# Altium footprint library Analog Devices MEMS Inertial Sensors.PcbLib: 29 footprints (part 1 of 2)
Each footprint in its own frame and in the unit in brackets; x right, y up, seen from the top. Pads: shape width x height; smd on the part's side, far side on the other; paste and mask are expansions set on the pad; w line width, h text height; cw(c..) or ccw(c..) is an arc to the next point about the centre after c.
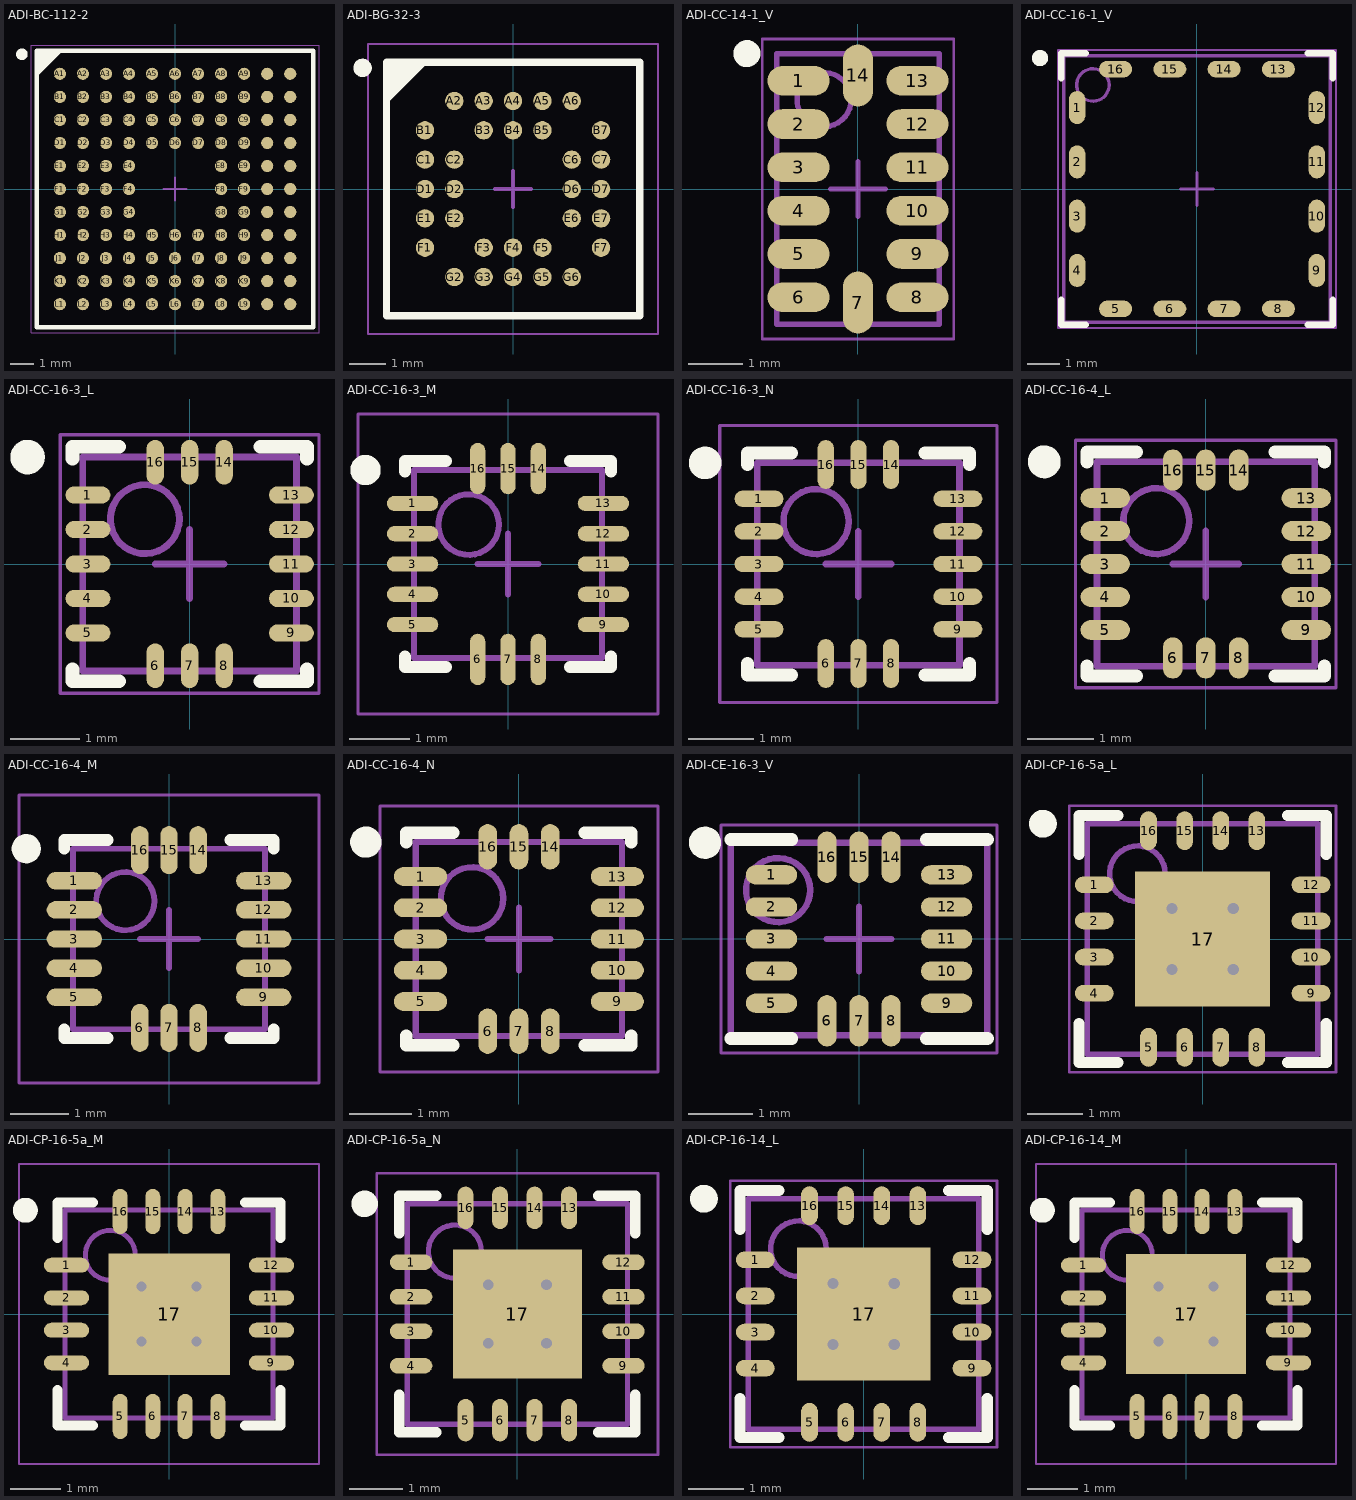
[diagram p0: the footprints below, top view; thin cyan lines are the x and y axes]

## ADI-BC-112-2 [mm] "BGA, 112-Balls, Body 12x12mm, Pitch 1mm"
height 4.15
pads (112):
  round 0.53 smd: A1(-5,5) A2(-4,5) A3(-3,5) A4(-2,5) A5(-1,5) A6(0,5) A7(1,5) A8(2,5) A9(3,5) A10(4,5) A11(5,5) B1(-5,4) B2(-4,4) B3(-3,4) B4(-2,4) B5(-1,4) B6(0,4) B7(1,4) B8(2,4) B9(3,4) B10(4,4) B11(5,4) C1(-5,3) C2(-4,3) C3(-3,3) C4(-2,3) C5(-1,3) C6(0,3) C7(1,3) C8(2,3) C9(3,3) C10(4,3) C11(5,3) D1(-5,2) D2(-4,2) D3(-3,2) D4(-2,2) D5(-1,2) D6(0,2) D7(1,2) D8(2,2) D9(3,2) D10(4,2) D11(5,2) E1(-5,1) E2(-4,1) E3(-3,1) E4(-2,1) E8(2,1) E9(3,1) E10(4,1) E11(5,1) F1(-5,0) F2(-4,0) F3(-3,0) F4(-2,0) F8(2,0) F9(3,0) F10(4,0) F11(5,0) G1(-5,-1) G2(-4,-1) G3(-3,-1) G4(-2,-1) G8(2,-1) G9(3,-1) G10(4,-1) G11(5,-1) H1(-5,-2) H2(-4,-2) H3(-3,-2) H4(-2,-2) H5(-1,-2) H6(0,-2) H7(1,-2) H8(2,-2) H9(3,-2) H10(4,-2) H11(5,-2) J1(-5,-3) J2(-4,-3) J3(-3,-3) J4(-2,-3) J5(-1,-3) J6(0,-3) J7(1,-3) J8(2,-3) J9(3,-3) J10(4,-3) J11(5,-3) K1(-5,-4) K2(-4,-4) K3(-3,-4) K4(-2,-4) K5(-1,-4) K6(0,-4) K7(1,-4) K8(2,-4) K9(3,-4) K10(4,-4) K11(5,-4) L1(-5,-5) L2(-4,-5) L3(-3,-5) L4(-2,-5) L5(-1,-5) L6(0,-5) L7(1,-5) L8(2,-5) L9(3,-5) L10(4,-5) L11(5,-5)
Top Overlay:
  circle w0.25: c-6.65,5.85 r0.125
  region: -5,6 -6,5 -6,6
  lines w0.2: -6,5 -5,6 ; -6,-6 6,-6 6,6 -6,6 -6,-6
Mechanical 13:
  lines w0.1: -6,-6 6,-6 6,6 -6,6 -6,-6
Mechanical 15:
  lines w0.05: -6.25,-6.25 6.25,-6.25 6.25,6.25 -6.25,6.25 -6.25,-6.25
  lines w0.1: -0.5,0 0.5,0 ; 0,-0.5 0,0.5
3D body: height 4.15, standoff 0.4, extent -6,-6 6,6

## ADI-BG-32-3 [mm] "BGA, 32-Balls, Body 6.85x6.85mm, Pitch 0.8mm"
height 3.8
pads (32):
  round 0.5 smd: A2(-1.6,2.4) A3(-0.8,2.4) A4(0,2.4) A5(0.8,2.4) A6(1.6,2.4) B1(-2.4,1.6) B3(-0.8,1.6) B4(0,1.6) B5(0.8,1.6) B7(2.4,1.6) C1(-2.4,0.8) C2(-1.6,0.8) C6(1.6,0.8) C7(2.4,0.8) D1(-2.4,0) D2(-1.6,0) D6(1.6,0) D7(2.4,0) E1(-2.4,-0.8) E2(-1.6,-0.8) E6(1.6,-0.8) E7(2.4,-0.8) F1(-2.4,-1.6) F3(-0.8,-1.6) F4(0,-1.6) F5(0.8,-1.6) F7(2.4,-1.6) G2(-1.6,-2.4) G3(-0.8,-2.4) G4(0,-2.4) G5(0.8,-2.4) G6(1.6,-2.4)
Top Overlay:
  circle w0.25: c-4.1,3.3 r0.125
  region: -2.45,3.45 -3.45,2.45 -3.45,3.45
  lines w0.2: -3.45,2.45 -2.45,3.45 ; -3.45,-3.45 -3.45,3.45 3.45,3.45 3.45,-3.45 -3.45,-3.45
Mechanical 13:
  lines w0.1: -3.44,-3.44 -3.44,3.44 3.44,3.44 3.44,-3.44 -3.44,-3.44
Mechanical 15:
  lines w0.05: -3.95,-3.95 -3.95,3.95 3.95,3.95 3.95,-3.95 -3.95,-3.95
  lines w0.1: -0.5,0 0.5,0 ; 0,-0.5 0,0.5
3D body: height 3.8, standoff 0.25, extent -3.44,-3.44 3.44,3.44

## ADI-CC-14-1_V [mm] "QFN, 14-Leads, Body 5x3mm, Pitch 0.8mm"
height 1
pads (14):
  oval 1.145x0.55 smd: 1(-1.098,2) 2(-1.098,1.2) 3(-1.098,0.4) 4(-1.098,-0.4) 5(-1.098,-1.2) 6(-1.098,-2) 8(1.097,-2) 9(1.097,-1.2) 10(1.097,-0.4) 11(1.097,0.4) 12(1.097,1.2) 13(1.097,2)
  oval 0.55x1.145 smd: 7(0,-2.097) 14(0,2.098)
Top Overlay:
  circle w0.25: c-2.051,2.5 r0.125
Mechanical 13:
  circle w0.1: c-0.627,1.651 r0.5
  lines w0.1: -1.5,-2.5 1.5,-2.5 1.5,2.5 -1.5,2.5 -1.5,-2.5
Mechanical 15:
  lines w0.05: -1.77,-2.77 1.77,-2.77 1.77,2.77 -1.77,2.77 -1.77,-2.77
  lines w0.1: -0.5,0 0.5,0 ; 0,-0.5 0,0.5
3D body: height 1, standoff 0, extent -1.5,-2.5 1.5,2.5

## ADI-CC-16-1_V [mil] "QFN, 16-Leads, Body 8.2x8.2mm, Pitch 1.67mm"
height 204.72
pads (16):
  oval 20x40 smd: 1(-145.14,98.62) 2(-145.14,32.87) 3(-145.14,-32.87) 4(-145.14,-98.62) 9(145.14,-98.62) 10(145.14,-32.87) 11(145.14,32.87) 12(145.14,98.62)
  oval 40x20 smd: 5(-98.62,-145.14) 6(-32.87,-145.14) 7(32.87,-145.14) 8(98.62,-145.14) 13(98.62,145.14) 14(32.87,145.14) 15(-32.87,145.14) 16(-98.62,145.14)
Top Overlay:
  circle w9.84: c-189.96,158.46 r4.92
  lines w7.87: -164.37,-134.37 -164.37,-164.37 -134.37,-164.37 ; -164.37,134.37 -164.37,164.37 -134.37,164.37 ; 134.37,-164.37 164.37,-164.37 164.37,-134.37 ; 134.37,164.37 164.37,164.37 164.37,134.37
Mechanical 13:
  circle w3.94: c-125.98,125.98 r19.68
  lines w3.94: -161.42,-161.42 161.42,-161.42 161.42,161.42 -161.42,161.42 -161.42,-161.42
Mechanical 15:
  lines w1.97: -168.31,-168.31 168.31,-168.31 168.31,168.31 -168.31,168.31 -168.31,-168.31
  lines w3.94: -19.68,0 19.68,0 ; 0,-19.68 0,19.68
3D body: height 125.98, standoff 0, extent -161.42,-161.42 161.42,161.42
3D body: height 204.72, standoff 125.98, extent -137.8,-137.8 137.8,137.8

## ADI-CC-16-3_L [mm] "QFN, 16-Leads, Body 3x3mm, Pitch 0.5mm, IPC High Density"
height 1
pads (16):
  oval 0.65x0.25 smd: 1(-1.475,1) 2(-1.475,0.5) 3(-1.475,0) 4(-1.475,-0.5) 5(-1.475,-1) 9(1.475,-1) 10(1.475,-0.5) 11(1.475,0) 12(1.475,0.5) 13(1.475,1)
  oval 0.25x0.65 smd: 6(-0.5,-1.475) 7(0,-1.475) 8(0.5,-1.475) 14(0.5,1.475) 15(0,1.475) 16(-0.5,1.475)
Top Overlay:
  circle w0.25: c-2.35,1.55 r0.125
  lines w0.2: -1.7,-1.525 -1.7,-1.7 -1.025,-1.7 ; -1.7,1.525 -1.7,1.7 -1.025,1.7 ; 1.025,-1.7 1.7,-1.7 1.7,-1.525 ; 1.025,1.7 1.7,1.7 1.7,1.525
Mechanical 13:
  circle w0.1: c-0.65,0.65 r0.5
  lines w0.1: -1.55,-1.55 -1.55,1.55 1.55,1.55 1.55,-1.55 -1.55,-1.55
Mechanical 15:
  lines w0.05: -1.875,-1.875 -1.875,1.875 1.875,1.875 1.875,-1.875 -1.875,-1.875
  lines w0.1: -0.5,0 0.5,0 ; 0,-0.5 0,0.5
3D body: height 1, standoff 0, extent -1.55,-1.55 1.55,1.55

## ADI-CC-16-3_M [mm] "QFN, 16-Leads, Body 3x3mm, Pitch 0.5mm, IPC Low Density"
height 1
pads (16):
  oval 0.85x0.25 smd: 1(-1.575,1) 2(-1.575,0.5) 3(-1.575,0) 4(-1.575,-0.5) 5(-1.575,-1) 9(1.575,-1) 10(1.575,-0.5) 11(1.575,0) 12(1.575,0.5) 13(1.575,1)
  oval 0.25x0.85 smd: 6(-0.5,-1.575) 7(0,-1.575) 8(0.5,-1.575) 14(0.5,1.575) 15(0,1.575) 16(-0.5,1.575)
Top Overlay:
  circle w0.25: c-2.35,1.55 r0.125
  lines w0.2: -1.7,-1.525 -1.7,-1.7 -1.025,-1.7 ; -1.7,1.525 -1.7,1.7 -1.025,1.7 ; 1.025,-1.7 1.7,-1.7 1.7,-1.525 ; 1.025,1.7 1.7,1.7 1.7,1.525
Mechanical 13:
  circle w0.1: c-0.65,0.65 r0.5
  lines w0.1: -1.55,-1.55 -1.55,1.55 1.55,1.55 1.55,-1.55 -1.55,-1.55
Mechanical 15:
  lines w0.05: -2.475,-2.475 -2.475,2.475 2.475,2.475 2.475,-2.475 -2.475,-2.475
  lines w0.1: -0.5,0 0.5,0 ; 0,-0.5 0,0.5
3D body: height 1, standoff 0, extent -1.55,-1.55 1.55,1.55

## ADI-CC-16-3_N [mm] "QFN, 16-Leads, Body 3x3mm, Pitch 0.5mm, IPC Medium Density"
height 1
pads (16):
  oval 0.75x0.25 smd: 1(-1.525,1) 2(-1.525,0.5) 3(-1.525,0) 4(-1.525,-0.5) 5(-1.525,-1) 9(1.525,-1) 10(1.525,-0.5) 11(1.525,0) 12(1.525,0.5) 13(1.525,1)
  oval 0.25x0.75 smd: 6(-0.5,-1.525) 7(0,-1.525) 8(0.5,-1.525) 14(0.5,1.525) 15(0,1.525) 16(-0.5,1.525)
Top Overlay:
  circle w0.25: c-2.35,1.55 r0.125
  lines w0.2: -1.7,-1.525 -1.7,-1.7 -1.025,-1.7 ; -1.7,1.525 -1.7,1.7 -1.025,1.7 ; 1.025,-1.7 1.7,-1.7 1.7,-1.525 ; 1.025,1.7 1.7,1.7 1.7,1.525
Mechanical 13:
  circle w0.1: c-0.65,0.65 r0.5
  lines w0.1: -1.55,-1.55 -1.55,1.55 1.55,1.55 1.55,-1.55 -1.55,-1.55
Mechanical 15:
  lines w0.05: -2.125,-2.125 -2.125,2.125 2.125,2.125 2.125,-2.125 -2.125,-2.125
  lines w0.1: -0.5,0 0.5,0 ; 0,-0.5 0,0.5
3D body: height 1, standoff 0, extent -1.55,-1.55 1.55,1.55

## ADI-CC-16-4_L [mm] "QFN, 16-Leads, Body 3.25x3mm, Pitch 0.5mm, IPC High Density"
height 1.14
pads (16):
  oval 0.75x0.3 smd: 1(-1.525,1) 2(-1.525,0.5) 3(-1.525,0) 4(-1.525,-0.5) 5(-1.525,-1) 9(1.525,-1) 10(1.525,-0.5) 11(1.525,0) 12(1.525,0.5) 13(1.525,1)
  oval 0.3x0.625 smd: 6(-0.5,-1.425) 7(0,-1.425) 8(0.5,-1.425) 14(0.5,1.425) 15(0,1.425) 16(-0.5,1.425)
Top Overlay:
  circle w0.25: c-2.45,1.55 r0.125
  lines w0.2: -1.8,-1.55 -1.8,-1.7 -1.05,-1.7 ; -1.8,1.55 -1.8,1.7 -1.05,1.7 ; 1.05,-1.7 1.8,-1.7 1.8,-1.55 ; 1.05,1.7 1.8,1.7 1.8,1.55
Mechanical 13:
  circle w0.1: c-0.75,0.65 r0.5
  lines w0.1: -1.65,-1.55 1.65,-1.55 1.65,1.55 -1.65,1.55 -1.65,-1.55
Mechanical 15:
  lines w0.05: -1.975,-1.875 1.975,-1.875 1.975,1.875 -1.975,1.875 -1.975,-1.875
  lines w0.1: -0.5,0 0.5,0 ; 0,-0.5 0,0.5
3D body: height 1.14, standoff 0, extent -1.65,-1.55 1.65,1.55

## ADI-CC-16-4_M [mm] "QFN, 16-Leads, Body 3.25x3mm, Pitch 0.5mm, IPC Low Density"
height 1.14
pads (16):
  oval 0.95x0.3 smd: 1(-1.625,1) 2(-1.625,0.5) 3(-1.625,0) 4(-1.625,-0.5) 5(-1.625,-1) 9(1.625,-1) 10(1.625,-0.5) 11(1.625,0) 12(1.625,0.5) 13(1.625,1)
  oval 0.3x0.825 smd: 6(-0.5,-1.525) 7(0,-1.525) 8(0.5,-1.525) 14(0.5,1.525) 15(0,1.525) 16(-0.5,1.525)
Top Overlay:
  circle w0.25: c-2.45,1.55 r0.125
  lines w0.2: -1.8,-1.55 -1.8,-1.7 -1.05,-1.7 ; -1.8,1.55 -1.8,1.7 -1.05,1.7 ; 1.05,-1.7 1.8,-1.7 1.8,-1.55 ; 1.05,1.7 1.8,1.7 1.8,1.55
Mechanical 13:
  circle w0.1: c-0.75,0.65 r0.5
  lines w0.1: -1.65,-1.55 1.65,-1.55 1.65,1.55 -1.65,1.55 -1.65,-1.55
Mechanical 15:
  lines w0.05: -2.575,-2.475 2.575,-2.475 2.575,2.475 -2.575,2.475 -2.575,-2.475
  lines w0.1: -0.5,0 0.5,0 ; 0,-0.5 0,0.5
3D body: height 1.14, standoff 0, extent -1.65,-1.55 1.65,1.55

## ADI-CC-16-4_N [mm] "QFN, 16-Leads, Body 3.25x3mm, Pitch 0.5mm, IPC Medium Density"
height 1.14
pads (16):
  oval 0.85x0.3 smd: 1(-1.575,1) 2(-1.575,0.5) 3(-1.575,0) 4(-1.575,-0.5) 5(-1.575,-1) 9(1.575,-1) 10(1.575,-0.5) 11(1.575,0) 12(1.575,0.5) 13(1.575,1)
  oval 0.3x0.725 smd: 6(-0.5,-1.475) 7(0,-1.475) 8(0.5,-1.475) 14(0.5,1.475) 15(0,1.475) 16(-0.5,1.475)
Top Overlay:
  circle w0.25: c-2.45,1.55 r0.125
  lines w0.2: -1.8,-1.55 -1.8,-1.7 -1.05,-1.7 ; -1.8,1.55 -1.8,1.7 -1.05,1.7 ; 1.05,-1.7 1.8,-1.7 1.8,-1.55 ; 1.05,1.7 1.8,1.7 1.8,1.55
Mechanical 13:
  circle w0.1: c-0.75,0.65 r0.5
  lines w0.1: -1.65,-1.55 1.65,-1.55 1.65,1.55 -1.65,1.55 -1.65,-1.55
Mechanical 15:
  lines w0.05: -2.225,-2.125 2.225,-2.125 2.225,2.125 -2.225,2.125 -2.225,-2.125
  lines w0.1: -0.5,0 0.5,0 ; 0,-0.5 0,0.5
3D body: height 1.14, standoff 0, extent -1.65,-1.55 1.65,1.55

## ADI-CE-16-3_V [mm] "QFN, 16-Leads, Body 4x3mm, Pitch 0.5mm"
height 1.3
pads (16):
  oval 0.8x0.3 smd: 1(-1.365,1) 2(-1.365,0.5) 3(-1.365,0) 4(-1.365,-0.5) 5(-1.365,-1) 9(1.365,-1) 10(1.365,-0.5) 11(1.365,0) 12(1.365,0.5) 13(1.365,1)
  oval 0.3x0.8 smd: 6(-0.5,-1.275) 7(0,-1.275) 8(0.5,-1.275) 14(0.5,1.275) 15(0,1.275) 16(-0.5,1.275)
Top Overlay:
  circle w0.25: c-2.4,1.5 r0.125
  lines w0.2: -2,-1.55 -1.049,-1.55 ; -2,1.55 -1.049,1.55 ; 1.049,-1.55 2,-1.55 ; 1.049,1.55 2,1.55
Mechanical 13:
  circle w0.1: c-1.262,0.762 r0.5
  lines w0.1: -2,-1.5 -2,1.5 2,1.5 2,-1.5 -2,-1.5
Mechanical 15:
  lines w0.05: -2.15,-1.775 -2.15,1.775 2.15,1.775 2.15,-1.775 -2.15,-1.775
  lines w0.1: -0.5,0 0.5,0 ; 0,-0.5 0,0.5
3D body: height 1.3, standoff 0, extent -2,-1.5 2,1.5

## ADI-CP-16-5a_L [mm] "QFN, 16-Leads, Body 4x4mm, Pitch 0.65mm, Thermal Pad 1.75x1.75mm, IPC High Density"
height 1.5
pads (17):
  oval 0.7x0.3 smd: 1(-1.95,0.975) 2(-1.95,0.325) 3(-1.95,-0.325) 4(-1.95,-0.975) 9(1.95,-0.975) 10(1.95,-0.325) 11(1.95,0.325) 12(1.95,0.975)
  oval 0.3x0.7 smd: 5(-0.975,-1.95) 6(-0.325,-1.95) 7(0.325,-1.95) 8(0.975,-1.95) 13(0.975,1.95) 14(0.325,1.95) 15(-0.325,1.95) 16(-0.975,1.95)
  rect 2.43x2.43 smd: 17(0,0)
via -0.55,0.55 diameter 0.5 hole 0.2
via 0.55,0.55 diameter 0.5 hole 0.2
via -0.55,-0.55 diameter 0.5 hole 0.2
via 0.55,-0.55 diameter 0.5 hole 0.2
Top Overlay:
  circle w0.25: c-2.875,2.075 r0.125
  lines w0.2: -2.225,-1.525 -2.225,-2.225 -1.525,-2.225 ; -2.225,1.525 -2.225,2.225 -1.525,2.225 ; 1.525,-2.225 2.225,-2.225 2.225,-1.525 ; 1.525,2.225 2.225,2.225 2.225,1.525
Mechanical 13:
  circle w0.1: c-1.175,1.175 r0.5
  lines w0.1: -2.075,-2.075 -2.075,2.075 2.075,2.075 2.075,-2.075 -2.075,-2.075
Mechanical 15:
  lines w0.05: -2.4,-2.4 -2.4,2.4 2.4,2.4 2.4,-2.4 -2.4,-2.4
  lines w0.1: -0.5,0 0.5,0 ; 0,-0.5 0,0.5
3D body: height 1.5, standoff 0, extent -2.075,-2.075 2.075,2.075

## ADI-CP-16-5a_M [mm] "QFN, 16-Leads, Body 4x4mm, Pitch 0.65mm, Thermal Pad 1.75x1.75mm, IPC Low Density"
height 1.5
pads (17):
  oval 0.9x0.3 smd: 1(-2.05,0.975) 2(-2.05,0.325) 3(-2.05,-0.325) 4(-2.05,-0.975) 9(2.05,-0.975) 10(2.05,-0.325) 11(2.05,0.325) 12(2.05,0.975)
  oval 0.3x0.9 smd: 5(-0.975,-2.05) 6(-0.325,-2.05) 7(0.325,-2.05) 8(0.975,-2.05) 13(0.975,2.05) 14(0.325,2.05) 15(-0.325,2.05) 16(-0.975,2.05)
  rect 2.43x2.43 smd: 17(0,0)
via -0.55,0.55 diameter 0.5 hole 0.2
via 0.55,0.55 diameter 0.5 hole 0.2
via -0.55,-0.55 diameter 0.5 hole 0.2
via 0.55,-0.55 diameter 0.5 hole 0.2
Top Overlay:
  circle w0.25: c-2.875,2.075 r0.125
  lines w0.2: -2.225,-1.525 -2.225,-2.225 -1.525,-2.225 ; -2.225,1.525 -2.225,2.225 -1.525,2.225 ; 1.525,-2.225 2.225,-2.225 2.225,-1.525 ; 1.525,2.225 2.225,2.225 2.225,1.525
Mechanical 13:
  circle w0.1: c-1.175,1.175 r0.5
  lines w0.1: -2.075,-2.075 -2.075,2.075 2.075,2.075 2.075,-2.075 -2.075,-2.075
Mechanical 15:
  lines w0.05: -3,-3 -3,3 3,3 3,-3 -3,-3
  lines w0.1: -0.5,0 0.5,0 ; 0,-0.5 0,0.5
3D body: height 1.5, standoff 0, extent -2.075,-2.075 2.075,2.075

## ADI-CP-16-5a_N [mm] "QFN, 16-Leads, Body 4x4mm, Pitch 0.65mm, Thermal Pad 1.75x1.75mm, IPC Medium Density"
height 1.5
pads (17):
  oval 0.8x0.3 smd: 1(-2,0.975) 2(-2,0.325) 3(-2,-0.325) 4(-2,-0.975) 9(2,-0.975) 10(2,-0.325) 11(2,0.325) 12(2,0.975)
  oval 0.3x0.8 smd: 5(-0.975,-2) 6(-0.325,-2) 7(0.325,-2) 8(0.975,-2) 13(0.975,2) 14(0.325,2) 15(-0.325,2) 16(-0.975,2)
  rect 2.43x2.43 smd: 17(0,0)
via -0.55,0.55 diameter 0.5 hole 0.2
via 0.55,0.55 diameter 0.5 hole 0.2
via -0.55,-0.55 diameter 0.5 hole 0.2
via 0.55,-0.55 diameter 0.5 hole 0.2
Top Overlay:
  circle w0.25: c-2.875,2.075 r0.125
  lines w0.2: -2.225,-1.525 -2.225,-2.225 -1.525,-2.225 ; -2.225,1.525 -2.225,2.225 -1.525,2.225 ; 1.525,-2.225 2.225,-2.225 2.225,-1.525 ; 1.525,2.225 2.225,2.225 2.225,1.525
Mechanical 13:
  circle w0.1: c-1.175,1.175 r0.5
  lines w0.1: -2.075,-2.075 -2.075,2.075 2.075,2.075 2.075,-2.075 -2.075,-2.075
Mechanical 15:
  lines w0.05: -2.65,-2.65 -2.65,2.65 2.65,2.65 2.65,-2.65 -2.65,-2.65
  lines w0.1: -0.5,0 0.5,0 ; 0,-0.5 0,0.5
3D body: height 1.5, standoff 0, extent -2.075,-2.075 2.075,2.075

## ADI-CP-16-14_L [mm] "QFN, 16-Leads, Body 4x4mm, Pitch 0.65mm, Thermal Pad 2.4x2.4mm, IPC High Density"
height 1.5
pads (17):
  oval 0.7x0.3 smd: 1(-1.95,0.975) 2(-1.95,0.325) 3(-1.95,-0.325) 4(-1.95,-0.975) 9(1.95,-0.975) 10(1.95,-0.325) 11(1.95,0.325) 12(1.95,0.975)
  oval 0.3x0.7 smd: 5(-0.975,-1.95) 6(-0.325,-1.95) 7(0.325,-1.95) 8(0.975,-1.95) 13(0.975,1.95) 14(0.325,1.95) 15(-0.325,1.95) 16(-0.975,1.95)
  rect 2.4x2.4 smd: 17(0,0)
via -0.55,0.55 diameter 0.5 hole 0.2
via 0.55,0.55 diameter 0.5 hole 0.2
via -0.55,-0.55 diameter 0.5 hole 0.2
via 0.55,-0.55 diameter 0.5 hole 0.2
Top Overlay:
  circle w0.25: c-2.875,2.075 r0.125
  lines w0.2: -2.225,-1.525 -2.225,-2.225 -1.525,-2.225 ; -2.225,1.525 -2.225,2.225 -1.525,2.225 ; 1.525,-2.225 2.225,-2.225 2.225,-1.525 ; 1.525,2.225 2.225,2.225 2.225,1.525
Mechanical 13:
  circle w0.1: c-1.175,1.175 r0.5
  lines w0.1: -2.075,-2.075 -2.075,2.075 2.075,2.075 2.075,-2.075 -2.075,-2.075
Mechanical 15:
  lines w0.05: -2.4,-2.4 -2.4,2.4 2.4,2.4 2.4,-2.4 -2.4,-2.4
  lines w0.1: -0.5,0 0.5,0 ; 0,-0.5 0,0.5
3D body: height 1.5, standoff 0, extent -2.075,-2.075 2.075,2.075

## ADI-CP-16-14_M [mm] "QFN, 16-Leads, Body 4x4mm, Pitch 0.65mm, Thermal Pad 2.4x2.4mm, IPC Low Density"
height 1.5
pads (17):
  oval 0.9x0.3 smd: 1(-2.05,0.975) 2(-2.05,0.325) 3(-2.05,-0.325) 4(-2.05,-0.975) 9(2.05,-0.975) 10(2.05,-0.325) 11(2.05,0.325) 12(2.05,0.975)
  oval 0.3x0.9 smd: 5(-0.975,-2.05) 6(-0.325,-2.05) 7(0.325,-2.05) 8(0.975,-2.05) 13(0.975,2.05) 14(0.325,2.05) 15(-0.325,2.05) 16(-0.975,2.05)
  rect 2.4x2.4 smd: 17(0,0)
via -0.55,0.55 diameter 0.5 hole 0.2
via 0.55,0.55 diameter 0.5 hole 0.2
via -0.55,-0.55 diameter 0.5 hole 0.2
via 0.55,-0.55 diameter 0.5 hole 0.2
Top Overlay:
  circle w0.25: c-2.875,2.075 r0.125
  lines w0.2: -2.225,-1.525 -2.225,-2.225 -1.525,-2.225 ; -2.225,1.525 -2.225,2.225 -1.525,2.225 ; 1.525,-2.225 2.225,-2.225 2.225,-1.525 ; 1.525,2.225 2.225,2.225 2.225,1.525
Mechanical 13:
  circle w0.1: c-1.175,1.175 r0.5
  lines w0.1: -2.075,-2.075 -2.075,2.075 2.075,2.075 2.075,-2.075 -2.075,-2.075
Mechanical 15:
  lines w0.05: -3,-3 -3,3 3,3 3,-3 -3,-3
  lines w0.1: -0.5,0 0.5,0 ; 0,-0.5 0,0.5
3D body: height 1.5, standoff 0, extent -2.075,-2.075 2.075,2.075